# EAGLE library part 615018149421 (library Wurth_Elektronik_Electromechanic_Input-Output_Connectors_rev16a)
WR-MJ_Modular Jack_Tab UP_6P6C_Assembly 1x3 6P6C Tab UP_Pre-Assembly 1x3 <http://katalog.we-online.de/media/images/eican/Con_WR-MJ_Horizontal_Plastic_6150xx149421_pf2.jpg> Details see: http://katalog.we-online.de/en/em/615_0xx_149_421/615_018_149_421 Created 2014-12-16, Dan Xu 2014 (C) Würth Elektronik
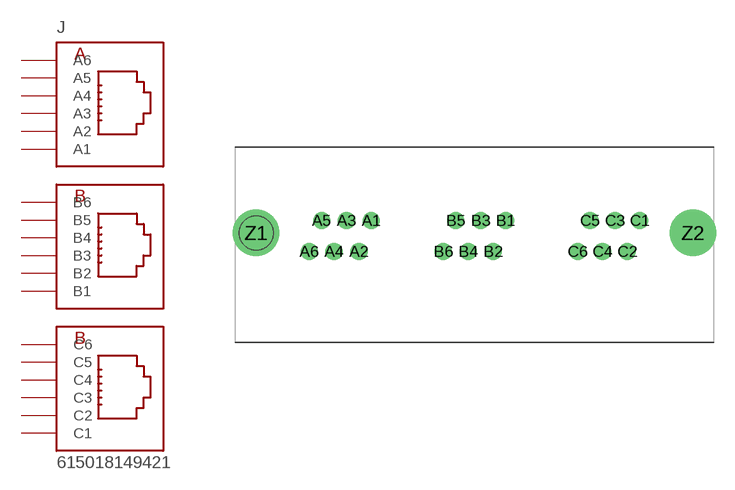
[diagram p161: symbol with the pads of 615018149421; footprint 615018149421]

Designator prefix J

## 615018149421  [615018149421]
A1  A1  pas
A2  A2  pas
A3  A3  pas
A4  A4  pas
A5  A5  pas
A6  A6  pas
B1  B1  pas
B2  B2  pas
B3  B3  pas
B4  B4  pas
B5  B5  pas
B6  B6  pas
C1  C1  pas
C2  C2  pas
C3  C3  pas
C4  C4  pas
C5  C5  pas
C6  C6  pas

## Footprint 615018149421 (pad centres in mm)
WR-MJ_Modular Jack_Tab UP_6P6C_Assembly 1x3 6P6C Tab UP_Pre-Assembly 1x3
drill 0.9: A1 -8.45,0; A2 -9.47,-2.54; A3 -10.49,0; A4 -11.51,-2.54; A5 -12.53,0; A6 -13.55,-2.54; B1 2.55,0; B2 1.53,-2.54; B3 0.51,0; B4 -0.51,-2.54; B5 -1.53,0; B6 -2.55,-2.54; C1 13.55,0; C2 12.53,-2.54; C3 11.51,0; C4 10.49,-2.54; C5 9.47,0; C6 8.45,-2.54
drill 2.8: Z1 -17.9,-1; Z2 17.9,-1
hole 2.8 at -17.9,-1